# Altium integrated library ME2108A33P.IntLib: 1 symbol
Pins are listed as number, name and electrical type; pins without a type are passive.

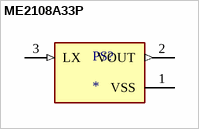
[diagram p0: symbol ME2108A33P]

## ME2108A33P
designator PS?
PFM Step-up Step-up Step-up Step-up DC/DC Converter; MP: ME2108A33P; MF: Nanjing Micro One Electronics; Price: None; SnapEDA_Link: https://www.snapeda.com/parts/ME2108A33P/Nanjing%20Micro%20One%20Electronics/view-part/4258047/?ref=snap; Value: *; Availability: Unavailable; Package: Package; Check_prices: https://www.snapeda.com/parts/ME2108A33P/Nanjing%20Micro%20One%20Electronics/view-part/4258047/?ref=eda
footprint CONV_ME2108A33P
pins: 1 VSS (power), 2 VOUT (out), 3 LX (in)